# Altium footprint library Control_Part_V1.1.PcbLib: 4 footprints
Each footprint in its own frame and in the unit in brackets; x right, y up, seen from the top. Pads: shape width x height; smd on the part's side, far side on the other; paste and mask are expansions set on the pad; w line width, h text height; cw(c..) or ccw(c..) is an arc to the next point about the centre after c.
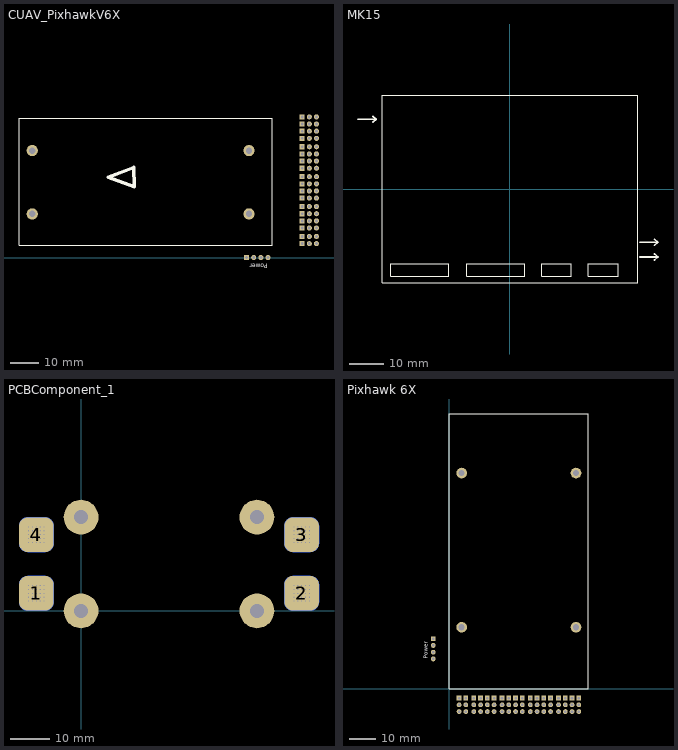
[diagram p0: the footprints below, top view; thin cyan lines are the x and y axes]

## CUAV_PixhawkV6X [mm]
pads (62):
  rect 1.8x1.8 hole 1: 1(118.364,5.08) 4(118.364,7.62) 7(118.364,10.62) 10(118.364,13.16) 13(118.364,15.7) 16(118.364,18.24) 19(118.364,21.24) 22(118.364,23.78) 25(118.364,26.32) 28(118.364,28.86) 31(118.364,31.86) 34(118.364,34.4) 37(118.364,36.94) 40(118.364,39.48) 43(118.364,42.48) 46(118.364,45.02) 49(118.364,47.56) 52(118.364,50.1) 55(98.612,0.121)
  round 1.8 hole 1: 2(120.904,5.08) 3(123.444,5.08) 5(120.904,7.62) 6(123.444,7.62) 8(120.904,10.62) 9(123.444,10.62) 11(120.904,13.16) 12(123.444,13.16) 14(120.904,15.7) 15(123.444,15.7) 17(120.904,18.24) 18(123.444,18.24) 20(120.904,21.24) 21(123.444,21.24) 23(120.904,23.78) 24(123.444,23.78) 26(120.904,26.32) 27(123.444,26.32) 29(120.904,28.86) 30(123.444,28.86) 32(120.904,31.86) 33(123.444,31.86) 35(120.904,34.4) 36(123.444,34.4) 38(120.904,36.94) 39(123.444,36.94) 41(120.904,39.48) 42(123.444,39.48) 44(120.904,42.48) 45(123.444,42.48) 47(120.904,45.02) 48(123.444,45.02) 50(120.904,47.56) 51(123.444,47.56) 53(120.904,50.1) 54(123.444,50.1) 56(101.152,0.121) 57(103.692,0.121) 58(106.232,0.121)
  round 4 hole 2.3: ""(22.479,15.621) ""(22.479,38.121) ""(99.479,15.621) ""(99.479,38.121)
Top Overlay:
  lines w0.254: 17.78,4.53 107.78,4.53 107.78,49.53 17.78,49.53 17.78,4.53
  lines w1.27: 49.419,28.708 58.547,32.131 58.667,25.24 49.419,28.708
  text "Power" at 106.105,-2.038 h1.52

## MK15 [mm]
Top Overlay:
  lines w0.254: -37.5,-27.5 37.5,-27.5 37.5,27.5 -37.5,27.5 -37.5,-27.5 ; -34.925,-25.654 -17.907,-25.654 -17.907,-21.971 -34.925,-21.971 -34.925,-25.654 ; -12.653,-25.654 4.365,-25.654 4.365,-21.971 -12.653,-21.971 -12.653,-25.654 ; 9.271,-25.654 18.034,-25.654 18.034,-21.971 9.271,-21.971 9.271,-25.654 ; 22.987,-25.654 31.75,-25.654 31.75,-21.971 22.987,-21.971 22.987,-25.654
  lines w0.508: -44.577,20.447 -39.243,20.447 ; -40.259,19.558 -39.243,20.447 ; -40.259,21.336 -39.243,20.447 ; 38.1,-19.939 43.434,-19.939 ; 38.1,-15.621 43.434,-15.621 ; 42.418,-20.828 43.434,-19.939 ; 42.418,-19.05 43.434,-19.939 ; 42.418,-16.51 43.434,-15.621 ; 42.418,-14.732 43.434,-15.621

## PCBComponent_1 [mil]
pads (113):
  round 20 hole 10: 1(-528.74,98.43) 1(-528.74,137.8) 1(-528.74,177.17) 1(-528.74,216.54) 1(-528.74,255.91) 1(-489.37,98.43) 1(-489.37,137.8) 1(-489.37,177.17) 1(-489.37,216.54) 1(-489.37,255.91) 1(-450,98.43) 1(-450,137.8) 1(-450,177.17) 1(-450,216.54) 1(-450,255.91) 1(-410.63,98.43) 1(-410.63,137.8) 1(-410.63,177.17) 1(-410.63,216.54) 1(-410.63,255.91) 1(-371.26,98.43) 1(-371.26,137.8) 1(-371.26,177.17) 1(-371.26,216.54) 1(-371.26,255.91) 2(2142.91,98.43) 2(2142.91,137.8) 2(2142.91,177.17) 2(2142.91,216.54) 2(2142.91,255.91) 2(2182.28,98.43) 2(2182.28,137.8) 2(2182.28,177.17) 2(2182.28,216.54) 2(2182.28,255.91) 2(2221.65,98.43) 2(2221.65,137.8) 2(2221.65,177.17) 2(2221.65,216.54) 2(2221.65,255.91) 2(2261.02,98.43) 2(2261.02,137.8) 2(2261.02,177.17) 2(2261.02,216.54) 2(2261.02,255.91) 2(2300.39,98.43) 2(2300.39,137.8) 2(2300.39,177.17) 2(2300.39,216.54) 2(2300.39,255.91) 3(2142.91,688.98) 3(2142.91,728.35) 3(2142.91,767.72) 3(2142.91,807.09) 3(2142.91,846.46) 3(2182.28,688.98) 3(2182.28,728.35) 3(2182.28,767.72) 3(2182.28,807.09) 3(2182.28,846.46) 3(2221.65,688.98) 3(2221.65,728.35) 3(2221.65,767.72) 3(2221.65,807.09) 3(2221.65,846.46) 3(2261.02,688.98) 3(2261.02,728.35) 3(2261.02,767.72) 3(2261.02,807.09) 3(2261.02,846.46) 3(2300.39,688.98) 3(2300.39,728.35) 3(2300.39,767.72) 3(2300.39,807.09) 3(2300.39,846.46) 4(-528.74,688.98) 4(-528.74,728.35) 4(-528.74,767.72) 4(-528.74,807.09) 4(-528.74,846.46) 4(-489.37,688.98) 4(-489.37,728.35) 4(-489.37,767.72) 4(-489.37,807.09) 4(-489.37,846.46) 4(-450,688.98) 4(-450,728.35) 4(-450,767.72) 4(-450,807.09) 4(-450,846.46) 4(-410.63,688.98) 4(-410.63,728.35) 4(-410.63,767.72) 4(-410.63,807.09) 4(-410.63,846.46) 4(-371.26,688.98) 4(-371.26,728.35) 4(-371.26,767.72) 4(-371.26,807.09) 4(-371.26,846.46)
  rrect50% 350x350 smd: 1(-450,177.17) 2(2221.65,177.17) 3(2221.65,767.72) 4(-450,767.72)
  rrect50% 350x350 smd far side: 1(-450,177.17) 2(2221.65,177.17) 3(2221.65,767.72) 4(-450,767.72)
  round 350 hole 140: ""(0,0) ""(0,944.88) ""(1771.65,0) ""(1771.65,944.88)
  round 60 hole 30: ""(1771.65,0)

## Pixhawk 6X [mm]
pads (62):
  rect 1.8x1.8 hole 1: 1(3.748,-3.429) 4(6.288,-3.429) 7(9.288,-3.429) 10(11.828,-3.429) 13(14.368,-3.429) 16(16.908,-3.429) 19(19.908,-3.429) 22(22.448,-3.429) 25(24.988,-3.429) 28(27.528,-3.429) 31(30.528,-3.429) 34(33.068,-3.429) 37(35.608,-3.429) 40(38.148,-3.429) 43(41.148,-3.429) 46(43.688,-3.429) 49(46.228,-3.429) 52(48.768,-3.429) 55(-5.969,18.923)
  round 1.8 hole 1: 2(3.748,-5.969) 3(3.748,-8.509) 5(6.288,-5.969) 6(6.288,-8.509) 8(9.288,-5.969) 9(9.288,-8.509) 11(11.828,-5.969) 12(11.828,-8.509) 14(14.368,-5.969) 15(14.368,-8.509) 17(16.908,-5.969) 18(16.908,-8.509) 20(19.908,-5.969) 21(19.908,-8.509) 23(22.448,-5.969) 24(22.448,-8.509) 26(24.988,-5.969) 27(24.988,-8.509) 29(27.528,-5.969) 30(27.528,-8.509) 32(30.528,-5.969) 33(30.528,-8.509) 35(33.068,-5.969) 36(33.068,-8.509) 38(35.608,-5.969) 39(35.608,-8.509) 41(38.148,-5.969) 42(38.148,-8.509) 44(41.148,-5.969) 45(41.148,-8.509) 47(43.688,-5.969) 48(43.688,-8.509) 50(46.228,-5.969) 51(46.228,-8.509) 53(48.768,-5.969) 54(48.768,-8.509) 56(-5.969,16.383) 57(-5.969,13.843) 58(-5.969,11.303)
  round 4 hole 2.3: ""(4.7,23.2) ""(4.7,81.2) ""(47.7,23.2) ""(47.7,81.2)
Top Overlay:
  lines w0.152: 0,0 52.4,0 52.4,103.4 0,103.4 0,0
  text "Power" at -8.128,11.43 h1.52
3D body "Pixhawk-Standard-Base-3D-simple（1）.STEP": height 21.35, standoff 0.5, extent -0.016,0.014 52.416,103.4